# Altium integrated library Altium Database Library V2.IntLib: 412 symbols (part 7 of 18)

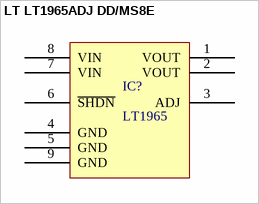
[diagram p138: symbol LT LT1965ADJ DD/MS8E]

## LT LT1965ADJ DD/MS8E
designator IC?, comment LT1965
1.1A, Low Noise, Low Dropout Linear Regulator
pins: 1 VOUT, 2 VOUT, 3 ADJ, 4 GND, 5 GND, 6 ~{SHDN}, 7 VIN, 8 VIN, 9 GND


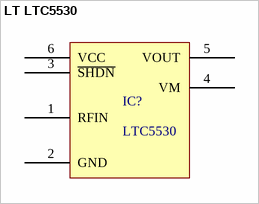
[diagram p139: symbol LT LTC5530]

## LT LTC5530
designator IC?, comment LTC5530
Precision 300MHz to 7GHz  RF Detector with Shutdown  and Gain Adjustment
pins: 1 RFIN, 2 GND, 3 ~{SHDN}, 4 VM, 5 VOUT, 6 VCC


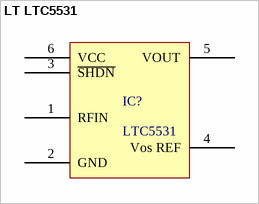
[diagram p140: symbol LT LTC5531]

## LT LTC5531
designator IC?, comment LTC5531
Precision 300MHz to 7GHz  RF Detector with Shutdown  and Offset Adjustment
pins: 1 RFIN, 2 GND, 3 ~{SHDN}, 4 Vos REF, 5 VOUT, 6 VCC


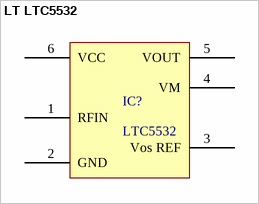
[diagram p141: symbol LT LTC5532]

## LT LTC5532
designator IC?, comment LTC5532
Precision 300MHz to 7GHz  RF Detector with Shutdown  and Gain Adjustment
pins: 1 RFIN, 2 GND, 3 Vos REF, 4 VM, 5 VOUT, 6 VCC


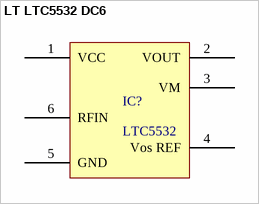
[diagram p142: symbol LT LTC5532 DC6]

## LT LTC5532 DC6
designator IC?, comment LTC5532
Precision 300MHz to 7GHz  RF Detector with Shutdown  and Gain Adjustment
pins: 1 VCC, 2 VOUT, 3 VM, 4 Vos REF, 5 GND, 6 RFIN


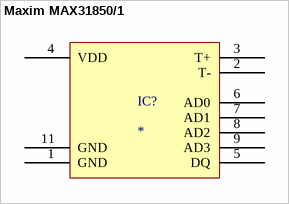
[diagram p143: symbol Maxim MAX31850/1]

## Maxim MAX31850/1
designator IC?
pins: 1 GND, 2 T-, 3 T+, 4 VDD, 5 DQ, 6 AD0, 7 AD1, 8 AD2, 9 AD3, 11 GND


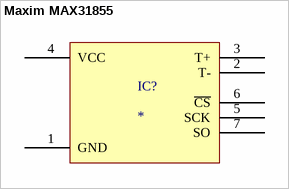
[diagram p144: symbol Maxim MAX31855]

## Maxim MAX31855
designator IC?
pins: 1 GND, 2 T-, 3 T+, 4 VCC, 5 SCK, 6 ~{CS}, 7 SO


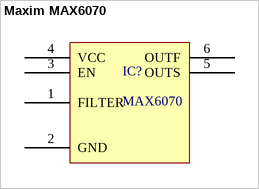
[diagram p145: symbol Maxim MAX6070]

## Maxim MAX6070
designator IC?, comment MAX6070
Low Noise High Precision Series Voltage References
pins: 1 FILTER, 2 GND, 3 EN, 4 VCC, 5 OUTS, 6 OUTF


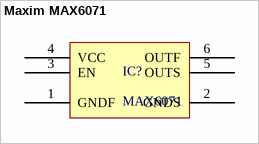
[diagram p146: symbol Maxim MAX6071]

## Maxim MAX6071
designator IC?, comment MAX6071
Low Noise High Precision Series Voltage References
pins: 1 GNDF, 2 GNDS, 3 EN, 4 VCC, 5 OUTS, 6 OUTF


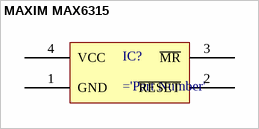
[diagram p147: symbol MAXIM MAX6315]

## MAXIM MAX6315
designator IC?
pins: 1 GND, 2 ~{RESET}, 3 ~{MR}, 4 VCC


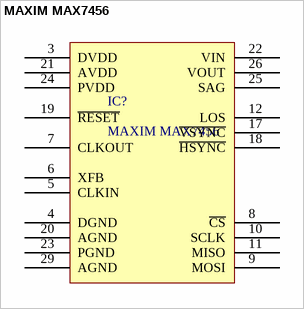
[diagram p148: symbol MAXIM MAX7456]

## MAXIM MAX7456
designator IC?
Single-Channel Monochrome On-Screen Display OSD with Integrated EEPROM
pins: 3 DVDD "Desc1", 4 DGND "Desc1", 5 CLKIN "Desc1", 6 XFB "Desc1", 7 CLKOUT "Desc1", 8 ~{CS} "Desc1", 9 MOSI "Desc1", 10 SCLK "Desc1", 11 MISO "Desc1", 12 LOS "Desc1", 17 ~{VSYNC} "Desc1", 18 ~{HSYNC} "Desc1", 19 ~{RESET} "Desc1", 20 AGND "Desc1", 21 AVDD "Desc1", 22 VIN "Desc1", 23 PGND "Desc1", 24 PVDD "Desc1", 25 SAG "Desc1", 26 VOUT "Desc1", 29 AGND "Desc1"


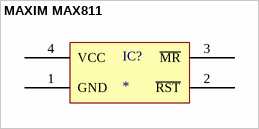
[diagram p149: symbol MAXIM MAX811]

## MAXIM MAX811
designator IC?
pins: 1 GND, 2 ~{RST}, 3 ~{MR}, 4 VCC


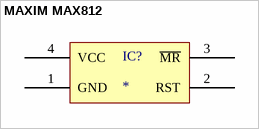
[diagram p150: symbol MAXIM MAX812]

## MAXIM MAX812
designator IC?
pins: 1 GND, 2 RST, 3 ~{MR}, 4 VCC


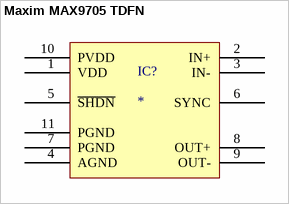
[diagram p151: symbol Maxim MAX9705 TDFN]

## Maxim MAX9705 TDFN
designator IC?
pins: 1 VDD, 2 IN+, 3 IN-, 4 AGND, 5 ~{SHDN}, 6 SYNC, 7 PGND, 8 OUT+, 9 OUT-, 10 PVDD, 11 PGND


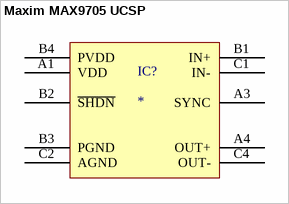
[diagram p152: symbol Maxim MAX9705 UCSP]

## Maxim MAX9705 UCSP
designator IC?
pins: A1 VDD, A3 SYNC, A4 OUT+, B1 IN+, B2 ~{SHDN}, B3 PGND, B4 PVDD, C1 IN-, C2 AGND, C4 OUT-


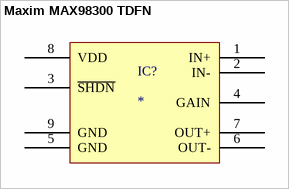
[diagram p153: symbol Maxim MAX98300 TDFN]

## Maxim MAX98300 TDFN
designator IC?
pins: 1 IN+, 2 IN-, 3 ~{SHDN}, 4 GAIN, 5 GND, 6 OUT-, 7 OUT+, 8 VDD, 9 GND


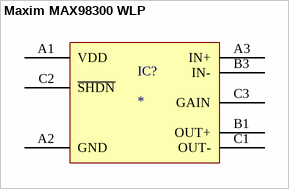
[diagram p154: symbol Maxim MAX98300 WLP]

## Maxim MAX98300 WLP
designator IC?
pins: A1 VDD, A2 GND, A3 IN+, B1 OUT+, B3 IN-, C1 OUT-, C2 ~{SHDN}, C3 GAIN


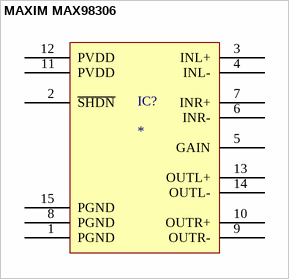
[diagram p155: symbol MAXIM MAX98306]

## MAXIM MAX98306
designator IC?
pins: 1 PGND, 2 ~{SHDN}, 3 INL+, 4 INL-, 5 GAIN, 6 INR-, 7 INR+, 8 PGND, 9 OUTR-, 10 OUTR+, 11 PVDD, 12 PVDD, 13 OUTL+, 14 OUTL-, 15 PGND


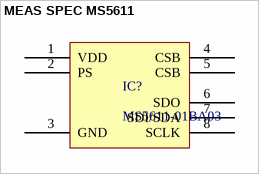
[diagram p156: symbol MEAS SPEC MS5611]

## MEAS SPEC MS5611
designator IC?, comment MS5611-01BA03
pins: 1 VDD "Positive supply voltage", 2 PS "Protocol select - PS high I2C, PS low SPI", 3 GND "Ground", 4 CSB "Chip select", 5 CSB "Chip select", 6 SDO "Serial data output", 7 SDI/SDA "Serial Data input/I2C data IO", 8 SCLK "Serial Data Clock"


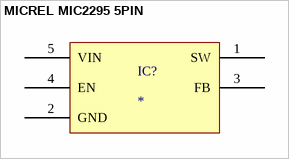
[diagram p157: symbol MICREL MIC2295 5PIN]

## MICREL MIC2295 5PIN
designator IC?
pins: 1 SW, 2 GND, 3 FB, 4 EN, 5 VIN


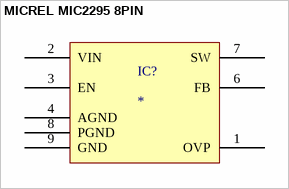
[diagram p158: symbol MICREL MIC2295 8PIN]

## MICREL MIC2295 8PIN
designator IC?
pins: 1 OVP, 2 VIN, 3 EN, 4 AGND, 6 FB, 7 SW, 8 PGND, 9 GND


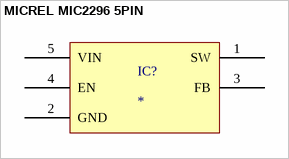
[diagram p159: symbol MICREL MIC2296 5PIN]

## MICREL MIC2296 5PIN
designator IC?
pins: 1 SW, 2 GND, 3 FB, 4 EN, 5 VIN


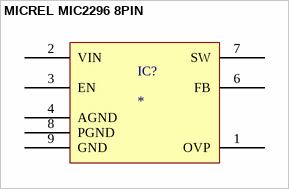
[diagram p160: symbol MICREL MIC2296 8PIN]

## MICREL MIC2296 8PIN
designator IC?
pins: 1 OVP, 2 VIN, 3 EN, 4 AGND, 6 FB, 7 SW, 8 PGND, 9 GND
